# Altium integrated library TSM-106-01-TM-SV.IntLib: 1 symbol
Pins are listed as number, name and electrical type; pins without a type are passive.

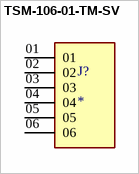
[diagram p0: symbol TSM-106-01-TM-SV]

## TSM-106-01-TM-SV
designator J?
CONN HEADER SMD 6POS 2.54MM; MF: Samtec; MP: TSM-106-01-TM-SV; SnapEDA_Link: https://www.snapeda.com/parts/TSM-106-01-TM-SV/Samtec/view-part/3383178/?ref=snap; Check_prices: https://www.snapeda.com/parts/TSM-106-01-TM-SV/Samtec/view-part/3383178/?ref=eda; Availability: Bad; Value: *; Price: None; Package: None; Purchase-URL: https://pricing.snapeda.com/search/part/TSM-106-01-TM-SV/?ref=eda
footprint SAMTEC_TSM-106-01-TM-SV
pins: 01, 02, 03, 04, 05, 06